# Altium schematic symbol library ESP8266.SchLib: 2 symbols
Pins are listed as number, name and electrical type; pins without a type are passive.

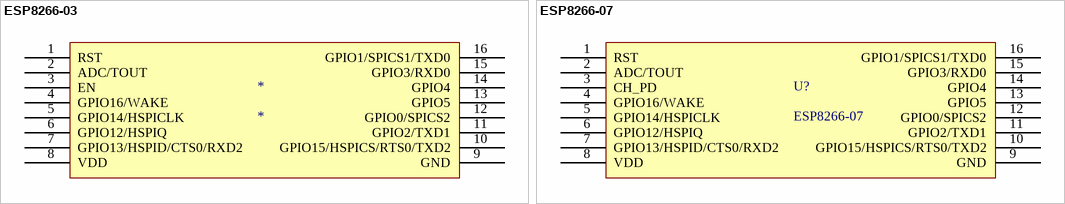
[diagram p0: symbols ESP8266-03 to ESP8266-07]

## ESP8266-03
designator *
pins: 1 RST, 2 ADC/TOUT, 3 EN, 4 GPIO16/WAKE, 5 GPIO14/HSPICLK, 6 GPIO12/HSPIQ, 7 GPIO13/HSPID/CTS0/RXD2, 8 VDD, 9 GND, 10 GPIO15/HSPICS/RTS0/TXD2, 11 GPIO2/TXD1, 12 GPIO0/SPICS2, 13 GPIO5, 14 GPIO4, 15 GPIO3/RXD0, 16 GPIO1/SPICS1/TXD0

## ESP8266-07
designator U?
footprint ESP07-16P (ESP8266-07)
pins: 1 RST, 2 ADC/TOUT, 3 CH_PD, 4 GPIO16/WAKE, 5 GPIO14/HSPICLK, 6 GPIO12/HSPIQ, 7 GPIO13/HSPID/CTS0/RXD2, 8 VDD, 9 GND, 10 GPIO15/HSPICS/RTS0/TXD2, 11 GPIO2/TXD1, 12 GPIO0/SPICS2, 13 GPIO5, 14 GPIO4, 15 GPIO3/RXD0, 16 GPIO1/SPICS1/TXD0